# Altium schematic symbol library MMBT4401-13-F.SchLib: 1 symbol
Pins are listed as number, name and electrical type; pins without a type are passive.

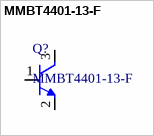
[diagram p0: symbol MMBT4401-13-F]

## MMBT4401-13-F
designator Q?
Bipolar Transistors - BJT BIPOLAR TRANSISTOR NPN; Manufacturer: Diodes Incorporated; IC(max): 600mA; VCE(max): 40V; VBE(max): 60V; VCE(sat): 750mV; PN: MMBT4401-13-F; RoHS: Yes; Stock 1: 91008; ComponentLink1URL: http://www.farnell.com/datasheets/2242044.pdf?src-supplier=Newark; ComponentLink1Description: http://www.farnell.com/datasheets/2242044.pdf?src-supplier=Newark; Supplier 1: Mouser; Supplier Part Number 1: 621-MMBT4401-13-F; Footprint: SOT-23-3; Package: SOT-23-3
footprint SOT-23-3
pins: 1 B, 2 E, 3 C